# EAGLE library part TEENSY_3.6_DIL+4 (library Teensy_libSG)
Teensy 3.6 DIL + 4 Pin configuration
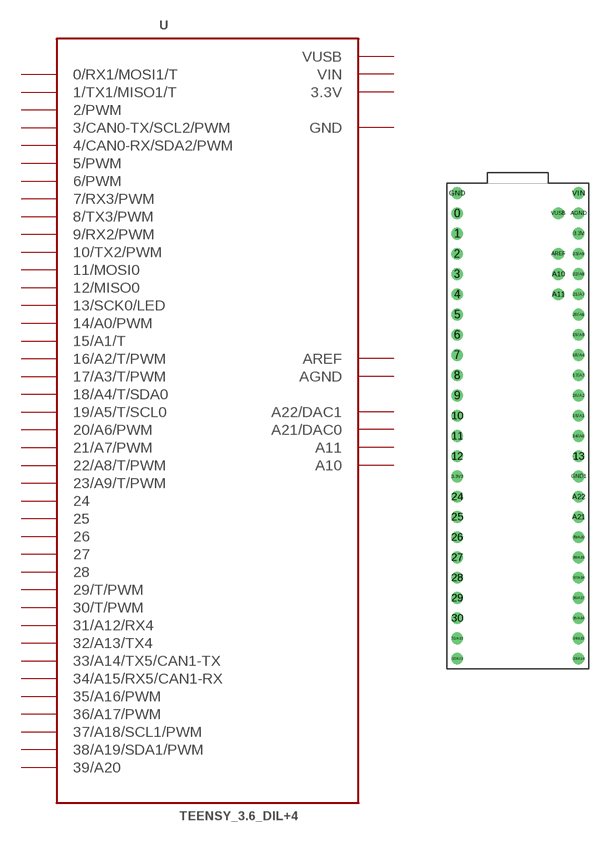
[diagram p20: symbol with the pads of TEENSY_3.6_DIL+4; footprint TEENSY_3.6_DIL+4]

Designator prefix -

## TEENSY_3.6_DIL+4  [TEENSY_3.6_DIL+4]
0  0/RX1/MOSI1/T
1  1/TX1/MISO1/T
2  2/PWM
3  3/CAN0-TX/SCL2/PWM
3.3V  3.3V  pwr
3.3V3  3.3V  pwr
4  4/CAN0-RX/SDA2/PWM
5  5/PWM
6  6/PWM
7  7/RX3/PWM
8  8/TX3/PWM
9  9/RX2/PWM
10  10/TX2/PWM
11  11/MOSI0
12  12/MISO0
13  13/SCK0/LED
14/A0  14/A0/PWM
15/A1  15/A1/T
16/A2  16/A2/T/PWM
17/A3  17/A3/T/PWM
18/A4  18/A4/T/SDA0
19/A5  19/A5/T/SCL0
20/A6  20/A6/PWM
21/A7  21/A7/PWM
22/A8  22/A8/T/PWM
23/A9  23/A9/T/PWM
24  24
25  25
26  26
27  27
28  28
29  29/T/PWM
30  30/T/PWM
31/A12  31/A12/RX4
32/A13  32/A13/TX4
33/A14  33/A14/TX5/CAN1-TX
34/A15  34/A15/RX5/CAN1-RX
35/A16  35/A16/PWM
36/A17  36/A17/PWM
37/A18  37/A18/SCL1/PWM
38/A19  38/A19/SDA1/PWM
39/A20  39/A20
A10  A10
A11  A11
A21  A21/DAC0
A22  A22/DAC1
AGND  AGND  pwr
AREF  AREF  pwr
GND  GND  pwr
GND1  GND  pwr
VIN  VIN  pwr
VUSB  VUSB  pwr

## Footprint TEENSY_3.6_DIL+4 (pad centres in mm)
drill 0.965: 0 -7.62,22.86; 1 -7.62,20.32; 2 -7.62,17.78; 3 -7.62,15.24; 3.3V 7.62,20.32; 3.3V3 -7.62,-10.16; 4 -7.62,12.7; 5 -7.62,10.16; 6 -7.62,7.62; 7 -7.62,5.08; 8 -7.62,2.54; 9 -7.62,0; 10 -7.62,-2.54; 11 -7.62,-5.08; 12 -7.62,-7.62; 13 7.62,-7.62; 14/A0 7.62,-5.08; 15/A1 7.62,-2.54; 16/A2 7.62,0; 17/A3 7.62,2.54; 18/A4 7.62,5.08; 19/A5 7.62,7.62; 20/A6 7.62,10.16; 21/A7 7.62,12.7; 22/A8 7.62,15.24; 23/A9 7.62,17.78; 24 -7.62,-12.7; 25 -7.62,-15.24; 26 -7.62,-17.78; 27 -7.62,-20.32; 28 -7.62,-22.86; 29 -7.62,-25.4; 30 -7.62,-27.94; 31/A12 -7.62,-30.48; 32/A13 -7.62,-33.02; 33/A14 7.62,-33.02; 34/A15 7.62,-30.48; 35/A16 7.62,-27.94; 36/A17 7.62,-25.4; 37/A18 7.62,-22.86; 38/A19 7.62,-20.32; 39/A20 7.62,-17.78; A10 5.08,15.24; A11 5.08,12.7; A21 7.62,-15.24; A22 7.62,-12.7; AGND 7.62,22.86; AREF 5.08,17.78; GND -7.62,25.4; GND1 7.62,-10.16; VIN 7.62,25.4; VUSB 5.08,22.86